# EAGLE library part MAX14502AETL+ (library Micro2)
Hi-Speed USB-to-SD Card Readers with Bypass
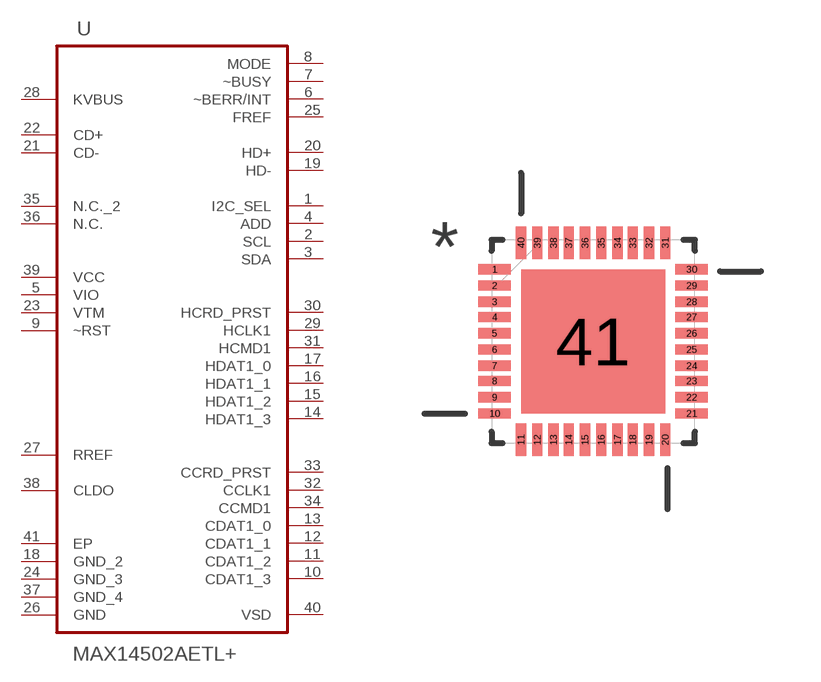
[diagram p15: symbol with the pads of QFN40P500X500X80-41N; footprint QFN40P500X500X80-41N]

Designator prefix U

## MAX14502AETL+ (MPN: MAX14502AETL+; OC_FARNELL: -; OC_NEWARK: 09R0393; PACKAGE: TQFN-40; SUPPLIER: Maxim)  [QFN40P500X500X80-41N]
1  I2C_SEL  in
2  SCL  in
3  SDA
4  ADD  in
5  VIO  pas
6  ~BERR/INT
7  ~BUSY  out
8  MODE  in
9  ~RST  in
10  CDAT1_3  pas
11  CDAT1_2  pas
12  CDAT1_1  pas
13  CDAT1_0  pas
14  HDAT1_3  pas
15  HDAT1_2  pas
16  HDAT1_1  pas
17  HDAT1_0  pas
18  GND_2  pas
19  HD-  pas
20  HD+  pas
21  CD-  pas
22  CD+  pas
23  VTM  pas
24  GND_3  pas
25  FREF  pas
26  GND  pas
27  RREF  pas
28  KVBUS  pas
29  HCLK1  in
30  HCRD_PRST  pas
31  HCMD1  pas
32  CCLK1  in
33  CCRD_PRST  pas
34  CCMD1  pas
35  N.C._2  nc
36  N.C.  nc
37  GND_4  pas
38  CLDO  pwr
39  VCC  pwr
40  VSD  pwr
41  EP  pas

## Footprint QFN40P500X500X80-41N (pad centres in mm)
smd 0.813 x 0.254: 1 -2.464,1.803; 2 -2.464,1.397; 3 -2.464,0.991; 4 -2.464,0.61; 5 -2.464,0.203; 6 -2.464,-0.203; 7 -2.464,-0.61; 8 -2.464,-0.991; 9 -2.464,-1.397; 10 -2.464,-1.803; 21 2.464,-1.803; 22 2.464,-1.397; 23 2.464,-0.991; 24 2.464,-0.61; 25 2.464,-0.203; 26 2.464,0.203; 27 2.464,0.61; 28 2.464,0.991; 29 2.464,1.397; 30 2.464,1.803
smd 0.254 x 0.813: 11 -1.803,-2.464; 12 -1.397,-2.464; 13 -0.991,-2.464; 14 -0.61,-2.464; 15 -0.203,-2.464; 16 0.203,-2.464; 17 0.61,-2.464; 18 0.991,-2.464; 19 1.397,-2.464; 20 1.803,-2.464; 31 1.803,2.464; 32 1.397,2.464; 33 0.991,2.464; 34 0.61,2.464; 35 0.203,2.464; 36 -0.203,2.464; 37 -0.61,2.464; 38 -0.991,2.464; 39 -1.397,2.464; 40 -1.803,2.464
smd 3.607 x 3.607: 41 0,0